# EAGLE library part TA7251BP (library Audio-Power-amplifier)
30W BTL Audio Power Amplifier of Toshiba Bipolar Linear.
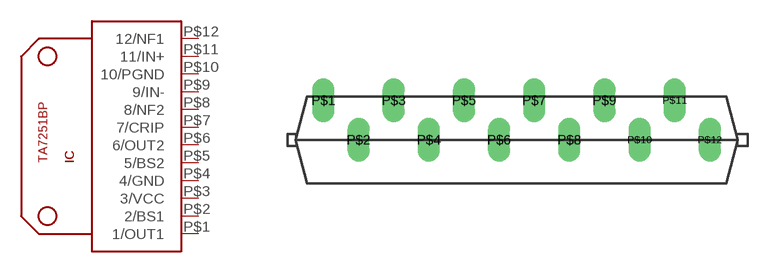
[diagram p63: symbol with the pads of HZIP12-P-1,78B; footprint HZIP12-P-1,78B]

Designator prefix IC

## TA7251BP  [HZIP12-P-1,78B]
P$1  1/OUT1  out
P$2  2/BS1
P$3  3/VCC  pwr
P$4  4/GND  pwr
P$5  5/BS2
P$6  6/OUT2  out
P$7  7/CRIP
P$8  8/NF2
P$9  9/IN-  in
P$10  10/PGND  pwr
P$11  11/IN+  in
P$12  12/NF1

## Footprint HZIP12-P-1,78B (pad centres in mm)
drill 0.6 pad 1.016 long: P$1 -9.779,2; P$2 -8.001,0; P$3 -6.223,2; P$4 -4.445,0; P$5 -2.667,2; P$6 -0.889,0; P$7 0.889,2; P$8 2.667,0; P$9 4.445,2; P$10 6.223,0; P$11 8.001,2; P$12 9.779,0